# Altium schematic symbol library lib_shem.SchLib: 2 symbols
Pins are listed as number, name and electrical type; pins without a type are passive.

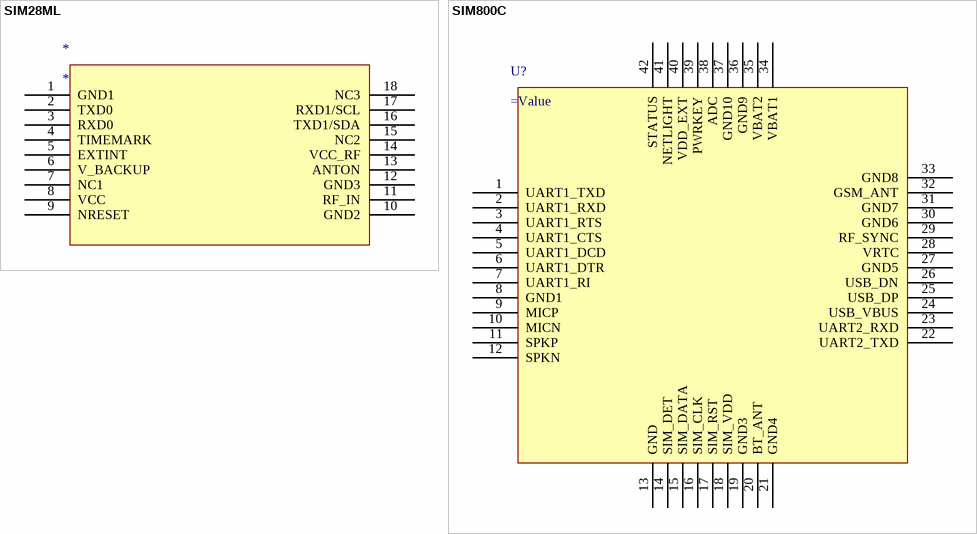
[diagram p0: symbols SIM28ML to SIM800C]

## SIM28ML
designator *
footprint SIM28ML (SON, 18-Leads, Body 10.10x9.70mm, Pitch 1.10mm, IPC Medium Density)
pins: 1 GND1, 2 TXD0, 3 RXD0, 4 TIMEMARK, 5 EXTINT, 6 V_BACKUP, 7 NC1, 8 VCC, 9 NRESET, 10 GND2, 11 RF_IN, 12 GND3, 13 ANTON, 14 VCC_RF, 15 NC2, 16 TXD1/SDA, 17 RXD1/SCL, 18 NC3

## SIM800C
designator U?
SIM800C GSM module
footprint SIM800C (PQFN, 42-Leads, Body 15.70x17.60mm, Pitch 1.10mm, Thermal Pad 4.00x2.20mm, IPC Medium Density)
pins: 1 UART1_TXD, 2 UART1_RXD, 3 UART1_RTS, 4 UART1_CTS, 5 UART1_DCD, 6 UART1_DTR, 7 UART1_RI, 8 GND1, 9 MICP, 10 MICN, 11 SPKP, 12 SPKN, 13 GND, 14 SIM_DET, 15 SIM_DATA, 16 SIM_CLK, 17 SIM_RST, 18 SIM_VDD, 19 GND3, 20 BT_ANT, 21 GND4, 22 UART2_TXD, 23 UART2_RXD, 24 USB_VBUS, 25 USB_DP, 26 USB_DN, 27 GND5, 28 VRTC, 29 RF_SYNC, 30 GND6, 31 GND7, 32 GSM_ANT, 33 GND8, 34 VBAT1, 35 VBAT2, 36 GND9, 37 GND10, 38 ADC, 39 PWRKEY, 40 VDD_EXT, 41 NETLIGHT, 42 STATUS